# EAGLE library part XC6SLX25-FT256 (library xess)
Xilinx Spartan 6 25-KLUT FPGA in FT256 package
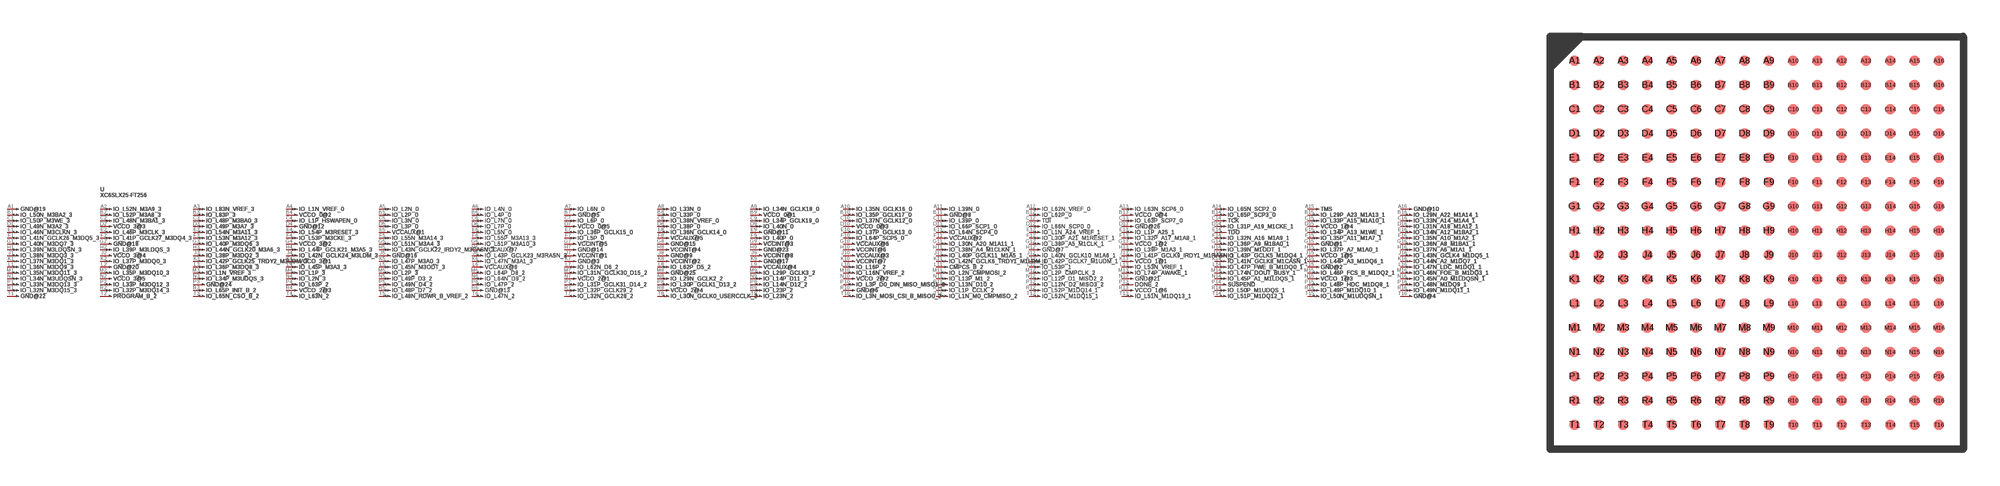
[diagram p150: symbol with the pads of XILINX-FT256; footprint XILINX-FT256]

Designator prefix U; gates PART=PV_GATE GND@19=PIN_GATE_IN IO_L52N_M3A9_3=PIN_GATE_IO IO_L83N_VREF_3=PIN_GATE_IO IO_L1N_VREF_0=PIN_GATE_IO IO_L2N_0=PIN_GATE_IO IO_L4N_0=PIN_GATE_IO IO_L6N_0=PIN_GATE_IO IO_L33N_0=PIN_GATE_IO IO_L34N_GCLK18_0=PIN_GATE_IO IO_L35N_GCLK16_0=PIN_GATE_IO IO_L39N_0=PIN_GATE_IO IO_L62N_VREF_0=PIN_GATE_IO IO_L63N_SCP6_0=PIN_GATE_IO IO_L65N_SCP2_0=PIN_GATE_IO TMS=PIN_GATE_IN GND@10=PIN_GATE_IN IO_L50N_M3BA2_3=PIN_GATE_IO IO_L52P_M3A8_3=PIN_GATE_IO IO_L83P_3=PIN_GATE_IO VCCO_0@2=PIN_GATE_IN IO_L2P_0=PIN_GATE_IO IO_L4P_0=PIN_GATE_IO GND@5=PIN_GATE_IN IO_L33P_0=PIN_GATE_IO VCCO_0@1=PIN_GATE_IN IO_L35P_GCLK17_0=PIN_GATE_IO GND@8=PIN_GATE_IN IO_L62P_0=PIN_GATE_IO VCCO_0@4=PIN_GATE_IN IO_L65P_SCP3_0=PIN_GATE_IO IO_L29P_A23_M1A13_1=PIN_GATE_IO IO_L29N_A22_M1A14_1=PIN_GATE_IO IO_L50P_M3WE_3=PIN_GATE_IO IO_L48N_M3BA1_3=PIN_GATE_IO IO_L48P_M3BA0_3=PIN_GATE_IO IO_L1P_HSWAPEN_0=PIN_GATE_IO IO_L3N_0=PIN_GATE_IO IO_L7N_0=PIN_GATE_IO IO_L6P_0=PIN_GATE_IO IO_L38N_VREF_0=PIN_GATE_IO IO_L34P_GCLK19_0=PIN_GATE_IO IO_L37N_GCLK12_0=PIN_GATE_IO IO_L39P_0=PIN_GATE_IO TDI=PIN_GATE_IN IO_L63P_SCP7_0=PIN_GATE_IO TCK=PIN_GATE_IN IO_L33P_A15_M1A10_1=PIN_GATE_IO IO_L33N_A14_M1A4_1=PIN_GATE_IO IO_L49N_M3A2_3=PIN_GATE_IO VCCO_3@3=PIN_GATE_IN IO_L49P_M3A7_3=PIN_GATE_IO GND@12=PIN_GATE_IN IO_L3P_0=PIN_GATE_IO IO_L7P_0=PIN_GATE_IO VCCO_0@5=PIN_GATE_IN IO_L38P_0=PIN_GATE_IO IO_L40N_0=PIN_GATE_IO VCCO_0@3=PIN_GATE_IN IO_L66P_SCP1_0=PIN_GATE_IO IO_L66N_SCP0_0=PIN_GATE_IO GND@26=PIN_GATE_IN IO_L31P_A19_M1CKE_1=PIN_GATE_IO VCCO_1@4=PIN_GATE_IN IO_L31N_A18_M1A12_1=PIN_GATE_IO IO_L46N_M3CLKN_3=PIN_GATE_IO IO_L46P_M3CLK_3=PIN_GATE_IO IO_L54N_M3A11_3=PIN_GATE_IO IO_L54P_M3RESET_3=PIN_GATE_IO VCCAUX@1=PIN_GATE_IN IO_L5N_0=PIN_GATE_IO IO_L36P_GCLK15_0=PIN_GATE_IO IO_L36N_GCLK14_0=PIN_GATE_IO GND@11=PIN_GATE_IN IO_L37P_GCLK13_0=PIN_GATE_IO IO_L64N_SCP4_0=PIN_GATE_IO IO_L1N_A24_VREF_1=PIN_GATE_IO IO_L1P_A25_1=PIN_GATE_IO TDO=PIN_GATE_OUT IO_L34P_A13_M1WE_1=PIN_GATE_IO IO_L34N_A12_M1BA2_1=PIN_GATE_IO IO_L41N_GCLK26_M3DQ5_3=PIN_GATE_IO IO_L41P_GCLK27_M3DQ4_3=PIN_GATE_IO IO_L53N_M3A12_3=PIN_GATE_IO IO_L53P_M3CKE_3=PIN_GATE_IO IO_L55N_M3A14_3=PIN_GATE_IO IO_L55P_M3A13_3=PIN_GATE_IO IO_L5P_0=PIN_GATE_IO VCCAUX@5=PIN_GATE_IN IO_L40P_0=PIN_GATE_IO IO_L64P_SCP5_0=PIN_GATE_IO VCCAUX@2=PIN_GATE_IN IO_L30P_A21_M1RESET_1=PIN_GATE_IO IO_L32P_A17_M1A8_1=PIN_GATE_IO IO_L32N_A16_M1A9_1=PIN_GATE_IO IO_L35P_A11_M1A7_1=PIN_GATE_IO IO_L35N_A10_M1A2_1=PIN_GATE_IO IO_L40N_M3DQ7_3=PIN_GATE_IO GND@18=PIN_GATE_IN IO_L40P_M3DQ6_3=PIN_GATE_IO VCCO_3@2=PIN_GATE_IN IO_L51N_M3A4_3=PIN_GATE_IO IO_L51P_M3A10_3=PIN_GATE_IO VCCINT@5=PIN_GATE_IN GND@15=PIN_GATE_IN VCCINT@3=PIN_GATE_IN VCCAUX@6=PIN_GATE_IN IO_L30N_A20_M1A11_1=PIN_GATE_IO IO_L38P_A5_M1CLK_1=PIN_GATE_IO VCCO_1@2=PIN_GATE_IN IO_L36P_A9_M1BA0_1=PIN_GATE_IO GND@1=PIN_GATE_IN IO_L36N_A8_M1BA1_1=PIN_GATE_IO IO_L39N_M3LDQSN_3=PIN_GATE_IO IO_L39P_M3LDQS_3=PIN_GATE_IO IO_L44N_GCLK20_M3A6_3=PIN_GATE_IO IO_L44P_GCLK21_M3A5_3=PIN_GATE_IO IO_L43N_GCLK22_IRDY2_M3CASN_3=PIN_GATE_IO VCCAUX@7=PIN_GATE_IN GND@14=PIN_GATE_IN VCCINT@4=PIN_GATE_IN GND@23=PIN_GATE_IN VCCINT@6=PIN_GATE_IN IO_L38N_A4_M1CLKN_1=PIN_GATE_IO GND@7=PIN_GATE_IN IO_L39P_M1A3_1=PIN_GATE_IO IO_L39N_M1ODT_1=PIN_GATE_IO IO_L37P_A7_M1A0_1=PIN_GATE_IO IO_L37N_A6_M1A1_1=PIN_GATE_IO IO_L38N_M3DQ3_3=PIN_GATE_IO VCCO_3@4=PIN_GATE_IN IO_L38P_M3DQ2_3=PIN_GATE_IO IO_L42N_GCLK24_M3LDM_3=PIN_GATE_IO GND@16=PIN_GATE_IN IO_L43P_GCLK23_M3RASN_3=PIN_GATE_IO VCCINT@1=PIN_GATE_IN GND@9=PIN_GATE_IN VCCINT@8=PIN_GATE_IN VCCAUX@3=PIN_GATE_IN IO_L40P_GCLK11_M1A5_1=PIN_GATE_IO IO_L40N_GCLK10_M1A6_1=PIN_GATE_IO IO_L41P_GCLK9_IRDY1_M1RASN_1=PIN_GATE_IO IO_L43P_GCLK5_M1DQ4_1=PIN_GATE_IO VCCO_1@5=PIN_GATE_IN IO_L43N_GCLK4_M1DQ5_1=PIN_GATE_IO IO_L37N_M3DQ1_3=PIN_GATE_IO IO_L37P_M3DQ0_3=PIN_GATE_IO IO_L42P_GCLK25_TRDY2_M3UDM_3=PIN_GATE_IO VCCO_3@1=PIN_GATE_IN IO_L47P_M3A0_3=PIN_GATE_IO IO_L47N_M3A1_3=PIN_GATE_IO GND@3=PIN_GATE_IN VCCINT@2=PIN_GATE_IN GND@17=PIN_GATE_IN VCCINT@7=PIN_GATE_IN IO_L42N_GCLK6_TRDY1_M1LDM_1=PIN_GATE_IO IO_L42P_GCLK7_M1UDM_1=PIN_GATE_IO VCCO_1@1=PIN_GATE_IN IO_L41N_GCLK8_M1CASN_1=PIN_GATE_IO IO_L44P_A3_M1DQ6_1=PIN_GATE_IO IO_L44N_A2_M1DQ7_1=PIN_GATE_IO IO_L36N_M3DQ9_3=PIN_GATE_IO GND@20=PIN_GATE_IN IO_L36P_M3DQ8_3=PIN_GATE_IO IO_L45P_M3A3_3=PIN_GATE_IO IO_L45N_M3ODT_3=PIN_GATE_IO VCCAUX@8=PIN_GATE_IN IO_L62N_D6_2=PIN_GATE_IO IO_L62P_D5_2=PIN_GATE_IO VCCAUX@4=PIN_GATE_IN IO_L16P_2=PIN_GATE_IO CMPCS_B_2=PIN_GATE_IN IO_L53P_1=PIN_GATE_IO IO_L53N_VREF_1=PIN_GATE_IO IO_L47P_FWE_B_M1DQ0_1=PIN_GATE_IO GND@2=PIN_GATE_IN IO_L47N_LDC_M1DQ1_1=PIN_GATE_IO IO_L35N_M3DQ11_3=PIN_GATE_IO IO_L35P_M3DQ10_3=PIN_GATE_IO IO_L1N_VREF_3=PIN_GATE_IO IO_L1P_3=PIN_GATE_IO IO_L2P_3=PIN_GATE_IO IO_L64P_D8_2=PIN_GATE_IO IO_L31N_GCLK30_D15_2=PIN_GATE_IO GND@25=PIN_GATE_IN IO_L29P_GCLK3_2=PIN_GATE_IO IO_L16N_VREF_2=PIN_GATE_IO IO_L2N_CMPMOSI_2=PIN_GATE_IO IO_L2P_CMPCLK_2=PIN_GATE_IO IO_L74P_AWAKE_1=PIN_GATE_IO IO_L74N_DOUT_BUSY_1=PIN_GATE_IO IO_L46P_FCS_B_M1DQ2_1=PIN_GATE_IO IO_L46N_FOE_B_M1DQ3_1=PIN_GATE_IO IO_L34N_M3UDQSN_3=PIN_GATE_IO VCCO_3@5=PIN_GATE_IN IO_L34P_M3UDQS_3=PIN_GATE_IO IO_L2N_3=PIN_GATE_IO IO_L49P_D3_2=PIN_GATE_IO IO_L64N_D9_2=PIN_GATE_IO VCCO_2@1=PIN_GATE_IN IO_L29N_GCLK2_2=PIN_GATE_IO IO_L14P_D11_2=PIN_GATE_IO VCCO_2@2=PIN_GATE_IN IO_L13P_M1_2=PIN_GATE_IO IO_L12P_D1_MISO2_2=PIN_GATE_IO GND@21=PIN_GATE_IN IO_L45P_A1_M1LDQS_1=PIN_GATE_IO VCCO_1@3=PIN_GATE_IN IO_L45N_A0_M1LDQSN_1=PIN_GATE_IO IO_L33N_M3DQ13_3=PIN_GATE_IO IO_L33P_M3DQ12_3=PIN_GATE_IO GND@24=PIN_GATE_IN IO_L63P_2=PIN_GATE_IO IO_L49N_D4_2=PIN_GATE_IO IO_L47P_2=PIN_GATE_IO IO_L31P_GCLK31_D14_2=PIN_GATE_IO IO_L30P_GCLK1_D13_2=PIN_GATE_IO IO_L14N_D12_2=PIN_GATE_IO IO_L3P_D0_DIN_MISO_MISO1_2=PIN_GATE_IO IO_L13N_D10_2=PIN_GATE_IO IO_L12N_D2_MISO3_2=PIN_GATE_IO DONE_2=PIN_GATE_OUT SUSPEND=PIN_GATE_IN IO_L48P_HDC_M1DQ8_1=PIN_GATE_IO IO_L48N_M1DQ9_1=PIN_GATE_IO IO_L32N_M3DQ15_3=PIN_GATE_IO IO_L32P_M3DQ14_3=PIN_GATE_IO IO_L65P_INIT_B_2=PIN_GATE_IO VCCO_2@3=PIN_GATE_IN IO_L48P_D7_2=PIN_GATE_IO GND@13=PIN_GATE_IN IO_L32P_GCLK29_2=PIN_GATE_IO VCCO_2@4=PIN_GATE_IN IO_L23P_2=PIN_GATE_IO GND@6=PIN_GATE_IN IO_L1P_CCLK_2=PIN_GATE_IO IO_L52P_M1DQ14_1=PIN_GATE_IO VCCO_1@6=PIN_GATE_IN IO_L50P_M1UDQS_1=PIN_GATE_IO IO_L49P_M1DQ10_1=PIN_GATE_IO IO_L49N_M1DQ11_1=PIN_GATE_IO GND@22=PIN_GATE_IN PROGRAM_B_2=PIN_GATE_IN IO_L65N_CSO_B_2=PIN_GATE_IO IO_L63N_2=PIN_GATE_IO IO_L48N_RDWR_B_VREF_2=PIN_GATE_IO IO_L47N_2=PIN_GATE_IO IO_L32N_GCLK28_2=PIN_GATE_IO IO_L30N_GCLK0_USERCCLK_2=PIN_GATE_IO IO_L23N_2=PIN_GATE_IO IO_L3N_MOSI_CSI_B_MISO0_2=PIN_GATE_IO IO_L1N_M0_CMPMISO_2=PIN_GATE_IO IO_L52N_M1DQ15_1=PIN_GATE_IO IO_L51N_M1DQ13_1=PIN_GATE_IO IO_L51P_M1DQ12_1=PIN_GATE_IO IO_L50N_M1UDQSN_1=PIN_GATE_IO GND@4=PIN_GATE_IN

## XC6SLX25-FT256  [XILINX-FT256]
A1  GND@19:1  in
A2  IO_L52N_M3A9_3:1
A3  IO_L83N_VREF_3:1
A4  IO_L1N_VREF_0:1
A5  IO_L2N_0:1
A6  IO_L4N_0:1
A7  IO_L6N_0:1
A8  IO_L33N_0:1
A9  IO_L34N_GCLK18_0:1
A10  IO_L35N_GCLK16_0:1
A11  IO_L39N_0:1
A12  IO_L62N_VREF_0:1
A13  IO_L63N_SCP6_0:1
A14  IO_L65N_SCP2_0:1
A15  TMS:1  in
A16  GND@10:1  in
B1  IO_L50N_M3BA2_3:1
B2  IO_L52P_M3A8_3:1
B3  IO_L83P_3:1
B4  VCCO_0@2:1  in
B5  IO_L2P_0:1
B6  IO_L4P_0:1
B7  GND@5:1  in
B8  IO_L33P_0:1
B9  VCCO_0@1:1  in
B10  IO_L35P_GCLK17_0:1
B11  GND@8:1  in
B12  IO_L62P_0:1
B13  VCCO_0@4:1  in
B14  IO_L65P_SCP3_0:1
B15  IO_L29P_A23_M1A13_1:1
B16  IO_L29N_A22_M1A14_1:1
C1  IO_L50P_M3WE_3:1
C2  IO_L48N_M3BA1_3:1
C3  IO_L48P_M3BA0_3:1
C4  IO_L1P_HSWAPEN_0:1
C5  IO_L3N_0:1
C6  IO_L7N_0:1
C7  IO_L6P_0:1
C8  IO_L38N_VREF_0:1
C9  IO_L34P_GCLK19_0:1
C10  IO_L37N_GCLK12_0:1
C11  IO_L39P_0:1
C12  TDI:1  in
C13  IO_L63P_SCP7_0:1
C14  TCK:1  in
C15  IO_L33P_A15_M1A10_1:1
C16  IO_L33N_A14_M1A4_1:1
D1  IO_L49N_M3A2_3:1
D2  VCCO_3@3:1  in
D3  IO_L49P_M3A7_3:1
D4  GND@12:1  in
D5  IO_L3P_0:1
D6  IO_L7P_0:1
D7  VCCO_0@5:1  in
D8  IO_L38P_0:1
D9  IO_L40N_0:1
D10  VCCO_0@3:1  in
D11  IO_L66P_SCP1_0:1
D12  IO_L66N_SCP0_0:1
D13  GND@26:1  in
D14  IO_L31P_A19_M1CKE_1:1
D15  VCCO_1@4:1  in
D16  IO_L31N_A18_M1A12_1:1
E1  IO_L46N_M3CLKN_3:1
E2  IO_L46P_M3CLK_3:1
E3  IO_L54N_M3A11_3:1
E4  IO_L54P_M3RESET_3:1
E5  VCCAUX@1:1  in
E6  IO_L5N_0:1
E7  IO_L36P_GCLK15_0:1
E8  IO_L36N_GCLK14_0:1
E9  GND@11:1  in
E10  IO_L37P_GCLK13_0:1
E11  IO_L64N_SCP4_0:1
E12  IO_L1N_A24_VREF_1:1
E13  IO_L1P_A25_1:1
E14  TDO:1  out
E15  IO_L34P_A13_M1WE_1:1
E16  IO_L34N_A12_M1BA2_1:1
F1  IO_L41N_GCLK26_M3DQ5_3:1
F2  IO_L41P_GCLK27_M3DQ4_3:1
F3  IO_L53N_M3A12_3:1
F4  IO_L53P_M3CKE_3:1
F5  IO_L55N_M3A14_3:1
F6  IO_L55P_M3A13_3:1
F7  IO_L5P_0:1
F8  VCCAUX@5:1  in
F9  IO_L40P_0:1
F10  IO_L64P_SCP5_0:1
F11  VCCAUX@2:1  in
F12  IO_L30P_A21_M1RESET_1:1
F13  IO_L32P_A17_M1A8_1:1
F14  IO_L32N_A16_M1A9_1:1
F15  IO_L35P_A11_M1A7_1:1
F16  IO_L35N_A10_M1A2_1:1
G1  IO_L40N_M3DQ7_3:1
G2  GND@18:1  in
G3  IO_L40P_M3DQ6_3:1
G4  VCCO_3@2:1  in
G5  IO_L51N_M3A4_3:1
G6  IO_L51P_M3A10_3:1
G7  VCCINT@5:1  in
G8  GND@15:1  in
G9  VCCINT@3:1  in
G10  VCCAUX@6:1  in
G11  IO_L30N_A20_M1A11_1:1
G12  IO_L38P_A5_M1CLK_1:1
G13  VCCO_1@2:1  in
G14  IO_L36P_A9_M1BA0_1:1
G15  GND@1:1  in
G16  IO_L36N_A8_M1BA1_1:1
H1  IO_L39N_M3LDQSN_3:1
H2  IO_L39P_M3LDQS_3:1
H3  IO_L44N_GCLK20_M3A6_3:1
H4  IO_L44P_GCLK21_M3A5_3:1
H5  IO_L43N_GCLK22_IRDY2_M3CASN_3:1
H6  VCCAUX@7:1  in
H7  GND@14:1  in
H8  VCCINT@4:1  in
H9  GND@23:1  in
H10  VCCINT@6:1  in
H11  IO_L38N_A4_M1CLKN_1:1
H12  GND@7:1  in
H13  IO_L39P_M1A3_1:1
H14  IO_L39N_M1ODT_1:1
H15  IO_L37P_A7_M1A0_1:1
H16  IO_L37N_A6_M1A1_1:1
J1  IO_L38N_M3DQ3_3:1
J2  VCCO_3@4:1  in
J3  IO_L38P_M3DQ2_3:1
J4  IO_L42N_GCLK24_M3LDM_3:1
J5  GND@16:1  in
J6  IO_L43P_GCLK23_M3RASN_3:1
J7  VCCINT@1:1  in
J8  GND@9:1  in
J9  VCCINT@8:1  in
J10  VCCAUX@3:1  in
J11  IO_L40P_GCLK11_M1A5_1:1
J12  IO_L40N_GCLK10_M1A6_1:1
J13  IO_L41P_GCLK9_IRDY1_M1RASN_1:1
J14  IO_L43P_GCLK5_M1DQ4_1:1
J15  VCCO_1@5:1  in
J16  IO_L43N_GCLK4_M1DQ5_1:1
K1  IO_L37N_M3DQ1_3:1
K2  IO_L37P_M3DQ0_3:1
K3  IO_L42P_GCLK25_TRDY2_M3UDM_3:1
K4  VCCO_3@1:1  in
K5  IO_L47P_M3A0_3:1
K6  IO_L47N_M3A1_3:1
K7  GND@3:1  in
K8  VCCINT@2:1  in
K9  GND@17:1  in
K10  VCCINT@7:1  in
K11  IO_L42N_GCLK6_TRDY1_M1LDM_1:1
K12  IO_L42P_GCLK7_M1UDM_1:1
K13  VCCO_1@1:1  in
K14  IO_L41N_GCLK8_M1CASN_1:1
K15  IO_L44P_A3_M1DQ6_1:1
K16  IO_L44N_A2_M1DQ7_1:1
L1  IO_L36N_M3DQ9_3:1
L2  GND@20:1  in
L3  IO_L36P_M3DQ8_3:1
L4  IO_L45P_M3A3_3:1
L5  IO_L45N_M3ODT_3:1
L6  VCCAUX@8:1  in
L7  IO_L62N_D6_2:1
L8  IO_L62P_D5_2:1
L9  VCCAUX@4:1  in
L10  IO_L16P_2:1
L11  CMPCS_B_2:1  in
L12  IO_L53P_1:1
L13  IO_L53N_VREF_1:1
L14  IO_L47P_FWE_B_M1DQ0_1:1
L15  GND@2:1  in
L16  IO_L47N_LDC_M1DQ1_1:1
M1  IO_L35N_M3DQ11_3:1
M2  IO_L35P_M3DQ10_3:1
M3  IO_L1N_VREF_3:1
M4  IO_L1P_3:1
M5  IO_L2P_3:1
M6  IO_L64P_D8_2:1
M7  IO_L31N_GCLK30_D15_2:1
M8  GND@25:1  in
M9  IO_L29P_GCLK3_2:1
M10  IO_L16N_VREF_2:1
M11  IO_L2N_CMPMOSI_2:1
M12  IO_L2P_CMPCLK_2:1
M13  IO_L74P_AWAKE_1:1
M14  IO_L74N_DOUT_BUSY_1:1
M15  IO_L46P_FCS_B_M1DQ2_1:1
M16  IO_L46N_FOE_B_M1DQ3_1:1
N1  IO_L34N_M3UDQSN_3:1
N2  VCCO_3@5:1  in
N3  IO_L34P_M3UDQS_3:1
N4  IO_L2N_3:1
N5  IO_L49P_D3_2:1
N6  IO_L64N_D9_2:1
N7  VCCO_2@1:1  in
N8  IO_L29N_GCLK2_2:1
N9  IO_L14P_D11_2:1
N10  VCCO_2@2:1  in
N11  IO_L13P_M1_2:1
N12  IO_L12P_D1_MISO2_2:1
N13  GND@21:1  in
N14  IO_L45P_A1_M1LDQS_1:1
N15  VCCO_1@3:1  in
N16  IO_L45N_A0_M1LDQSN_1:1
P1  IO_L33N_M3DQ13_3:1
P2  IO_L33P_M3DQ12_3:1
P3  GND@24:1  in
P4  IO_L63P_2:1
P5  IO_L49N_D4_2:1
P6  IO_L47P_2:1
P7  IO_L31P_GCLK31_D14_2:1
P8  IO_L30P_GCLK1_D13_2:1
P9  IO_L14N_D12_2:1
P10  IO_L3P_D0_DIN_MISO_MISO1_2:1
P11  IO_L13N_D10_2:1
P12  IO_L12N_D2_MISO3_2:1
P13  DONE_2:1  out
P14  SUSPEND:1  in
P15  IO_L48P_HDC_M1DQ8_1:1
P16  IO_L48N_M1DQ9_1:1
R1  IO_L32N_M3DQ15_3:1
R2  IO_L32P_M3DQ14_3:1
R3  IO_L65P_INIT_B_2:1
R4  VCCO_2@3:1  in
R5  IO_L48P_D7_2:1
R6  GND@13:1  in
R7  IO_L32P_GCLK29_2:1
R8  VCCO_2@4:1  in
R9  IO_L23P_2:1
R10  GND@6:1  in
R11  IO_L1P_CCLK_2:1
R12  IO_L52P_M1DQ14_1:1
R13  VCCO_1@6:1  in
R14  IO_L50P_M1UDQS_1:1
R15  IO_L49P_M1DQ10_1:1
R16  IO_L49N_M1DQ11_1:1
T1  GND@22:1  in
T2  PROGRAM_B_2:1  in
T3  IO_L65N_CSO_B_2:1
T4  IO_L63N_2:1
T5  IO_L48N_RDWR_B_VREF_2:1
T6  IO_L47N_2:1
T7  IO_L32N_GCLK28_2:1
T8  IO_L30N_GCLK0_USERCCLK_2:1
T9  IO_L23N_2:1
T10  IO_L3N_MOSI_CSI_B_MISO0_2:1
T11  IO_L1N_M0_CMPMISO_2:1
T12  IO_L52N_M1DQ15_1:1
T13  IO_L51N_M1DQ13_1:1
T14  IO_L51P_M1DQ12_1:1
T15  IO_L50N_M1UDQSN_1:1
T16  GND@4:1  in

## Footprint XILINX-FT256 (pad centres in mm)
Xilinx 256-Ball Fine-Pitch Thin BGA Package
smd 0.4 x 0.4: A1 0,0; A2 1,0; A3 2,0; A4 3,0; A5 4,0; A6 5,0; A7 6,0; A8 7,0; A9 8,0; A10 9,0; A11 10,0; A12 11,0; A13 12,0; A14 13,0; A15 14,0; A16 15,0; B1 0,-1; B2 1,-1; B3 2,-1; B4 3,-1; B5 4,-1; B6 5,-1; B7 6,-1; B8 7,-1; B9 8,-1; B10 9,-1; B11 10,-1; B12 11,-1; B13 12,-1; B14 13,-1; B15 14,-1; B16 15,-1; C1 0,-2; C2 1,-2; C3 2,-2; C4 3,-2; C5 4,-2; C6 5,-2; C7 6,-2; C8 7,-2; C9 8,-2; C10 9,-2; C11 10,-2; C12 11,-2; C13 12,-2; C14 13,-2; C15 14,-2; C16 15,-2; D1 0,-3; D2 1,-3; D3 2,-3; D4 3,-3; D5 4,-3; D6 5,-3; D7 6,-3; D8 7,-3; D9 8,-3; D10 9,-3; D11 10,-3; D12 11,-3; D13 12,-3; D14 13,-3; D15 14,-3; D16 15,-3; E1 0,-4; E2 1,-4; E3 2,-4; E4 3,-4; E5 4,-4; E6 5,-4; E7 6,-4; E8 7,-4; E9 8,-4; E10 9,-4; E11 10,-4; E12 11,-4; E13 12,-4; E14 13,-4; E15 14,-4; E16 15,-4; F1 0,-5; F2 1,-5; F3 2,-5; F4 3,-5; F5 4,-5; F6 5,-5; F7 6,-5; F8 7,-5; F9 8,-5; F10 9,-5; F11 10,-5; F12 11,-5; F13 12,-5; F14 13,-5; F15 14,-5; F16 15,-5; G1 0,-6; G2 1,-6; G3 2,-6; G4 3,-6; G5 4,-6; G6 5,-6; G7 6,-6; G8 7,-6; G9 8,-6; G10 9,-6; G11 10,-6; G12 11,-6; G13 12,-6; G14 13,-6; G15 14,-6; G16 15,-6; H1 0,-7; H2 1,-7; H3 2,-7; H4 3,-7; H5 4,-7; H6 5,-7; H7 6,-7; H8 7,-7; H9 8,-7; H10 9,-7; H11 10,-7; H12 11,-7; H13 12,-7; H14 13,-7; H15 14,-7; H16 15,-7; J1 0,-8; J2 1,-8; J3 2,-8; J4 3,-8; J5 4,-8; J6 5,-8; J7 6,-8; J8 7,-8; J9 8,-8; J10 9,-8; J11 10,-8; J12 11,-8; J13 12,-8; J14 13,-8; J15 14,-8; J16 15,-8; K1 0,-9; K2 1,-9; K3 2,-9; K4 3,-9; K5 4,-9; K6 5,-9; K7 6,-9; K8 7,-9; K9 8,-9; K10 9,-9; K11 10,-9; K12 11,-9; K13 12,-9; K14 13,-9; K15 14,-9; K16 15,-9; L1 0,-10; L2 1,-10; L3 2,-10; L4 3,-10; L5 4,-10; L6 5,-10; L7 6,-10; L8 7,-10; L9 8,-10; L10 9,-10; L11 10,-10; L12 11,-10; L13 12,-10; L14 13,-10; L15 14,-10; L16 15,-10; M1 0,-11; M2 1,-11; M3 2,-11; M4 3,-11; M5 4,-11; M6 5,-11; M7 6,-11; M8 7,-11; M9 8,-11; M10 9,-11; M11 10,-11; M12 11,-11; M13 12,-11; M14 13,-11; M15 14,-11; M16 15,-11; N1 0,-12; N2 1,-12; N3 2,-12; N4 3,-12; N5 4,-12; N6 5,-12; N7 6,-12; N8 7,-12; N9 8,-12; N10 9,-12; N11 10,-12; N12 11,-12; N13 12,-12; N14 13,-12; N15 14,-12; N16 15,-12; P1 0,-13; P2 1,-13; P3 2,-13; P4 3,-13; P5 4,-13; P6 5,-13; P7 6,-13; P8 7,-13; P9 8,-13; P10 9,-13; P11 10,-13; P12 11,-13; P13 12,-13; P14 13,-13; P15 14,-13; P16 15,-13; R1 0,-14; R2 1,-14; R3 2,-14; R4 3,-14; R5 4,-14; R6 5,-14; R7 6,-14; R8 7,-14; R9 8,-14; R10 9,-14; R11 10,-14; R12 11,-14; R13 12,-14; R14 13,-14; R15 14,-14; R16 15,-14; T1 0,-15; T2 1,-15; T3 2,-15; T4 3,-15; T5 4,-15; T6 5,-15; T7 6,-15; T8 7,-15; T9 8,-15; T10 9,-15; T11 10,-15; T12 11,-15; T13 12,-15; T14 13,-15; T15 14,-15; T16 15,-15